# Altium footprint library bj Lib.PcbLib: 33 footprints (part 1 of 3)
Each footprint in its own frame and in the unit in brackets; x right, y up, seen from the top. Pads: shape width x height; smd on the part's side, far side on the other; paste and mask are expansions set on the pad; w line width, h text height; cw(c..) or ccw(c..) is an arc to the next point about the centre after c.
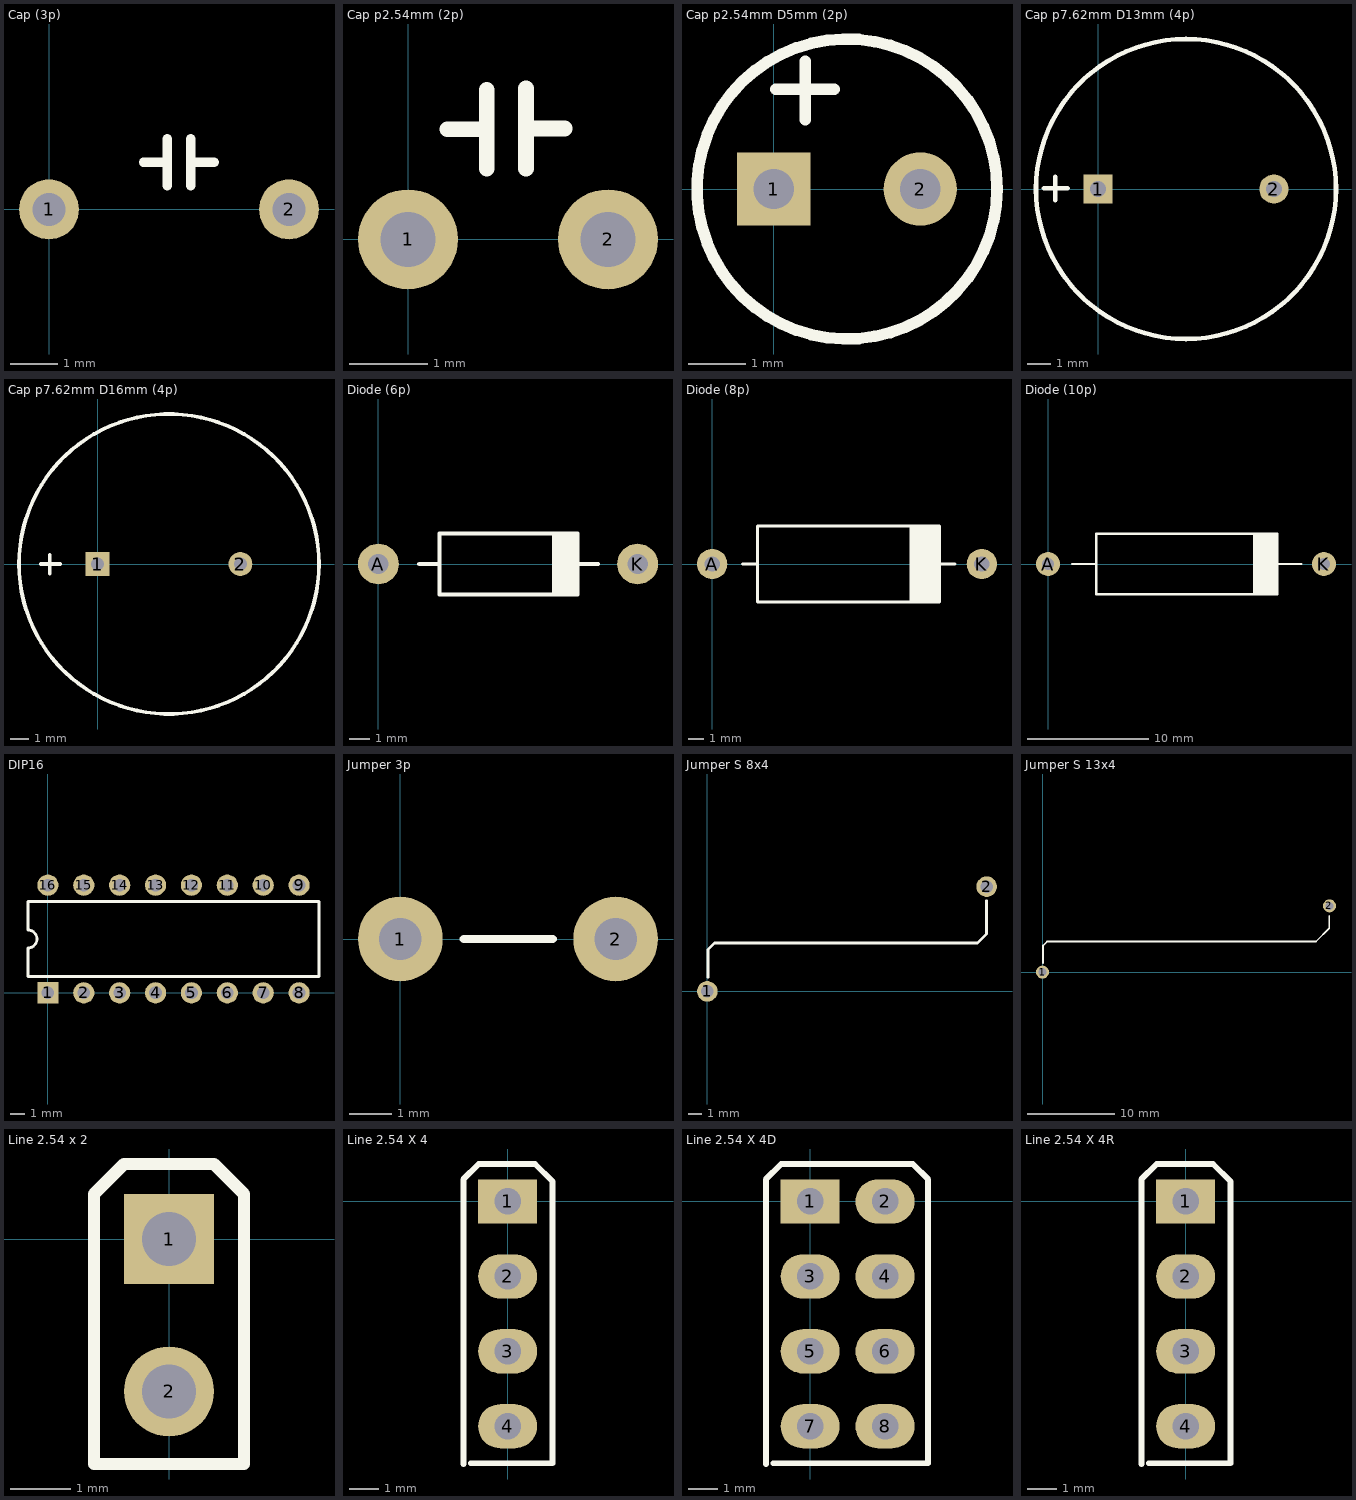
[diagram p0: the footprints below, top view; thin cyan lines are the x and y axes]

## Cap (3p) [mm]
height 5
pads (2):
  round 1.27 hole 0.7: 1(0,0) 2(5.08,0)
Top Overlay:
  lines w0.2: 2,1 2.5,1 ; 2.5,0.5 2.5,1.5 ; 3,0.5 3,1.5 ; 3,1 3.5,1

## Cap p2.54mm (2p) [mm]
height 5
pads (2):
  round 1.27 hole 0.7: 1(0,0) 2(2.54,0)
Top Overlay:
  lines w0.2: 0.5,1.4 1,1.4 ; 1,0.9 1,1.9 ; 1.5,0.9 1.5,1.916 ; 1.5,1.408 1.992,1.408

## Cap p2.54mm D5mm (2p) [mm] "D 5mm; H 8mm"
height 8
pads (2):
  rect 1.27x1.27 hole 0.7: 1(0,0)
  round 1.27 hole 0.7: 2(2.54,0)
Top Overlay:
  circle w0.2: c1.27,0 r2.6
  lines w0.2: 0.034,1.725 1.05,1.725 ; 0.55,1.2 0.55,2.216

## Cap p7.62mm D13mm (4p) [mm] "D 13mm; H 20mm"
height 20
pads (2):
  rect 1.27x1.27 hole 0.7: 1(0,0)
  round 1.27 hole 0.7: 2(7.62,0)
Top Overlay:
  circle w0.2: c3.81,0 r6.5
  lines w0.2: -2.343,0.025 -1.327,0.025 ; -1.85,-0.491 -1.85,0.525

## Cap p7.62mm D16mm (4p) [mm] "D 16mm; H 16mm"
height 16
pads (2):
  rect 1.27x1.27 hole 0.7: 1(0,0)
  round 1.27 hole 0.7: 2(7.62,0)
Top Overlay:
  circle w0.2: c3.81,0 r8
  lines w0.2: -3.018,0 -2.002,0 ; -2.55,-0.516 -2.55,0.5

## Diode (6p) [mm]
height 4
pads (2):
  round 2 hole 1: A(0,0) K(12.7,0)
Top Overlay:
  rectangle: 8.5,-1.5 9.75,1.5
  lines w0.2: 2,0 3,0 ; 9.75,0 10.75,0 ; 3,0 3,-1.5 9.75,-1.5 9.75,1.5 4.687,1.5 3,1.5 3,0

## Diode (8p) [mm]
height 7
pads (2):
  round 2 hole 1: A(0,0) K(17.78,0)
Top Overlay:
  rectangle: 13,-2.5 15,2.5
  lines w0.2: 2,0 3,0 ; 15,0 16,0 ; 3,0 3,2.5 15,2.5 15,-2.5 3,-2.5 3,0

## Diode (10p) [mm]
height 7
pads (2):
  round 2 hole 1: A(0,0) K(22.86,0)
Top Overlay:
  rectangle: 17,-2.5 19,2.5
  lines w0.2: 2,0 4,0 ; 19,0 21,0 ; 4,0 4,-2.5 19,-2.5 19,2.5 4,2.5 4,0

## DIP16 [mm] "DIP; 16 Leads; Row Spacing 7.62 mm; Pitch 2.54 mm"
height 5.08
pads (16):
  rect 1.5x1.5 hole 0.9: 1(0,0)
  round 1.5 hole 0.9: 2(2.54,0) 3(5.08,0) 4(7.62,0) 5(10.16,0) 6(12.7,0) 7(15.24,0) 8(17.78,0) 9(17.78,7.62) 10(15.24,7.62) 11(12.7,7.62) 12(10.16,7.62) 13(7.62,7.62) 14(5.08,7.62) 15(2.54,7.62) 16(0,7.62)
Top Overlay:
  lines w0.2: -1.41,1.16 -1.41,3.175 ccw(c-1.41,3.81) -1.41,4.445 -1.41,6.46 19.19,6.46 19.19,1.16 -1.41,1.16
3D body: height 4.19, standoff -2.57, extent -1.87,-0.049 19.72,7.825

## Jumper 3p [mm]
height 1
pads (2):
  round 2 hole 1: 1(0,0) 2(5.08,0)
Top Overlay:
  lines w0.2: 1.5,0 3.6,0

## Jumper S 8x4 [mm]
height 0.5
pads (2):
  round 1.5 hole 0.9: 1(0,0) 2(20.32,7.62)
Top Overlay:
  lines w0.2: 0.05,1.025 0.05,3.05 0.525,3.525 19.65,3.525 20.3,4.175 20.3,6.6
3D body: height 0.5, standoff 0.1, extent 0,0 20.375,7.62

## Jumper S 13x4 [mm]
height 0.5
pads (2):
  round 1.5 hole 0.9: 1(0,0) 2(33.02,7.62)
Top Overlay:
  lines w0.2: 0.05,1.025 0.05,3.05 0.525,3.525 31.465,3.525 33,5.06 33,6.5
3D body: height 0.5, standoff 0.1, extent -0.018,-0.025 33.05,7.608

## Line 2.54 x 2 [mm]
pads (2):
  rect 1.5x1.5 hole 0.9: 1(0,0)
  round 1.5 hole 0.9: 2(0,-2.54)
Top Overlay:
  lines w0.2: -1.25,-3.75 1.25,-3.75 1.25,0.75 0.75,1.25 -0.75,1.25 -1.25,0.75 -1.25,-3.75
3D body: height 8.3, standoff -2.9, extent -1.253,-3.69 1.246,1.39

## Line 2.54 X 4 [mm]
pads (4):
  rect 2x1.5 hole 0.9: 1(0,0)
  oval 2x1.5 hole 0.9: 2(0,-2.54) 3(0,-5.08) 4(0,-7.62)
Top Overlay:
  lines w0.2: -1.5,-8.9 -1.5,0.75 -0.98,1.27 0.93,1.27 1.525,0.675 1.525,-0.985 1.525,-8.875 -1.25,-8.875
3D body: height 8.2, standoff -3, extent -1.249,-8.785 1.249,1.375

## Line 2.54 X 4D [mm]
pads (8):
  rect 2x1.5 hole 0.9: 1(0,0)
  oval 2x1.5 hole 0.9: 2(2.54,0) 3(0,-2.54) 4(2.54,-2.54) 5(0,-5.08) 6(2.54,-5.08) 7(0,-7.62) 8(2.54,-7.62)
Top Overlay:
  lines w0.2: -1.5,-8.9 -1.5,0.75 -0.98,1.27 3.48,1.27 4,0.75 4,-8.875 -1.25,-8.875
3D body: height 8.6, standoff -2.9, extent -1.265,-8.88 3.815,1.28

## Line 2.54 X 4R [mm]
pads (4):
  rect 2x1.5 hole 0.9: 1(0,0)
  oval 2x1.5 hole 0.9: 2(0,-2.54) 3(0,-5.08) 4(0,-7.62)
Top Overlay:
  lines w0.2: -1.5,-8.9 -1.5,0.75 -0.98,1.27 0.93,1.27 1.525,0.675 1.525,-0.985 1.525,-8.875 -1.25,-8.875
3D body: height 2.64, standoff -2.9, extent -10.035,-8.9 0.325,1.26